# Altium footprint library 830108208209.PcbLib: 1 footprints
Each footprint in its own frame and in the unit in brackets; x right, y up, seen from the top. Pads: shape width x height; smd on the part's side, far side on the other; paste and mask are expansions set on the pad; w line width, h text height; cw(c..) or ccw(c..) is an arc to the next point about the centre after c.
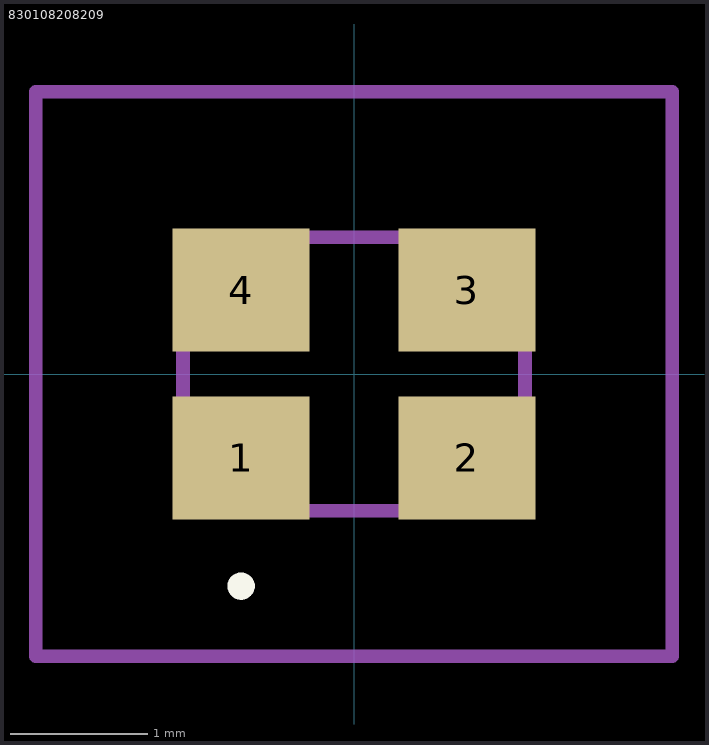
[diagram p0: the footprint, top view; thin cyan lines are the x and y axes]

## 830108208209 [mm]
pads (4):
  rect 1x0.9 smd: 1(-0.825,-0.613) 2(0.825,-0.613) 3(0.825,0.613) 4(-0.825,0.613)
Top Overlay:
  lines w0.1: -0.825,-1.6 cw(c-0.825,-1.55) -0.825,-1.5 ; -0.825,-1.6 -0.825,-1.6 ; -0.825,-1.6 ccw(c-0.825,-1.55) -0.825,-1.5 ; -0.825,-1.5 -0.825,-1.5
Mechanical 15:
  lines w0.1: -1.25,-1 1.25,-1 1.25,1 -1.25,1 -1.25,-1
Mechanical 20:
  lines w0.1: -2.325,-2.063 2.325,-2.063 2.325,2.063 -2.325,2.063 -2.325,-2.063